# EAGLE library part RV-3028-C7 (library agsys-valvecontrol)
RV-3028-C7 RTC
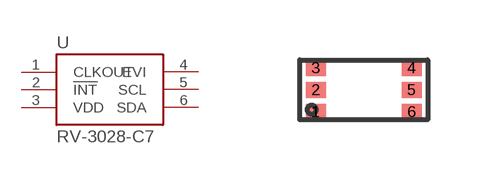
[diagram p4: symbol with the pads of RV3028; footprint RV3028]

Designator prefix U

## RV-3028-C7  [RV3028]
1  CLKOUT  out
2  !INT  out
3  VDD  pwr
4  EVI  in
5  SCL  in
6  SDA

## Footprint RV3028 (pad centres in mm)
RV-3028-C7 RTC 3.2x1.5mm
smd 0.5 x 0.4: 1 -1.2,-0.55; 2 -1.2,0; 3 -1.2,0.55; 4 1.2,0.55; 5 1.2,0; 6 1.2,-0.55